# Altium integrated library Linear Technology PMIC-Switching Reg LTC1174-LTC3901.IntLib: 2647 symbols (part 89 of 310)
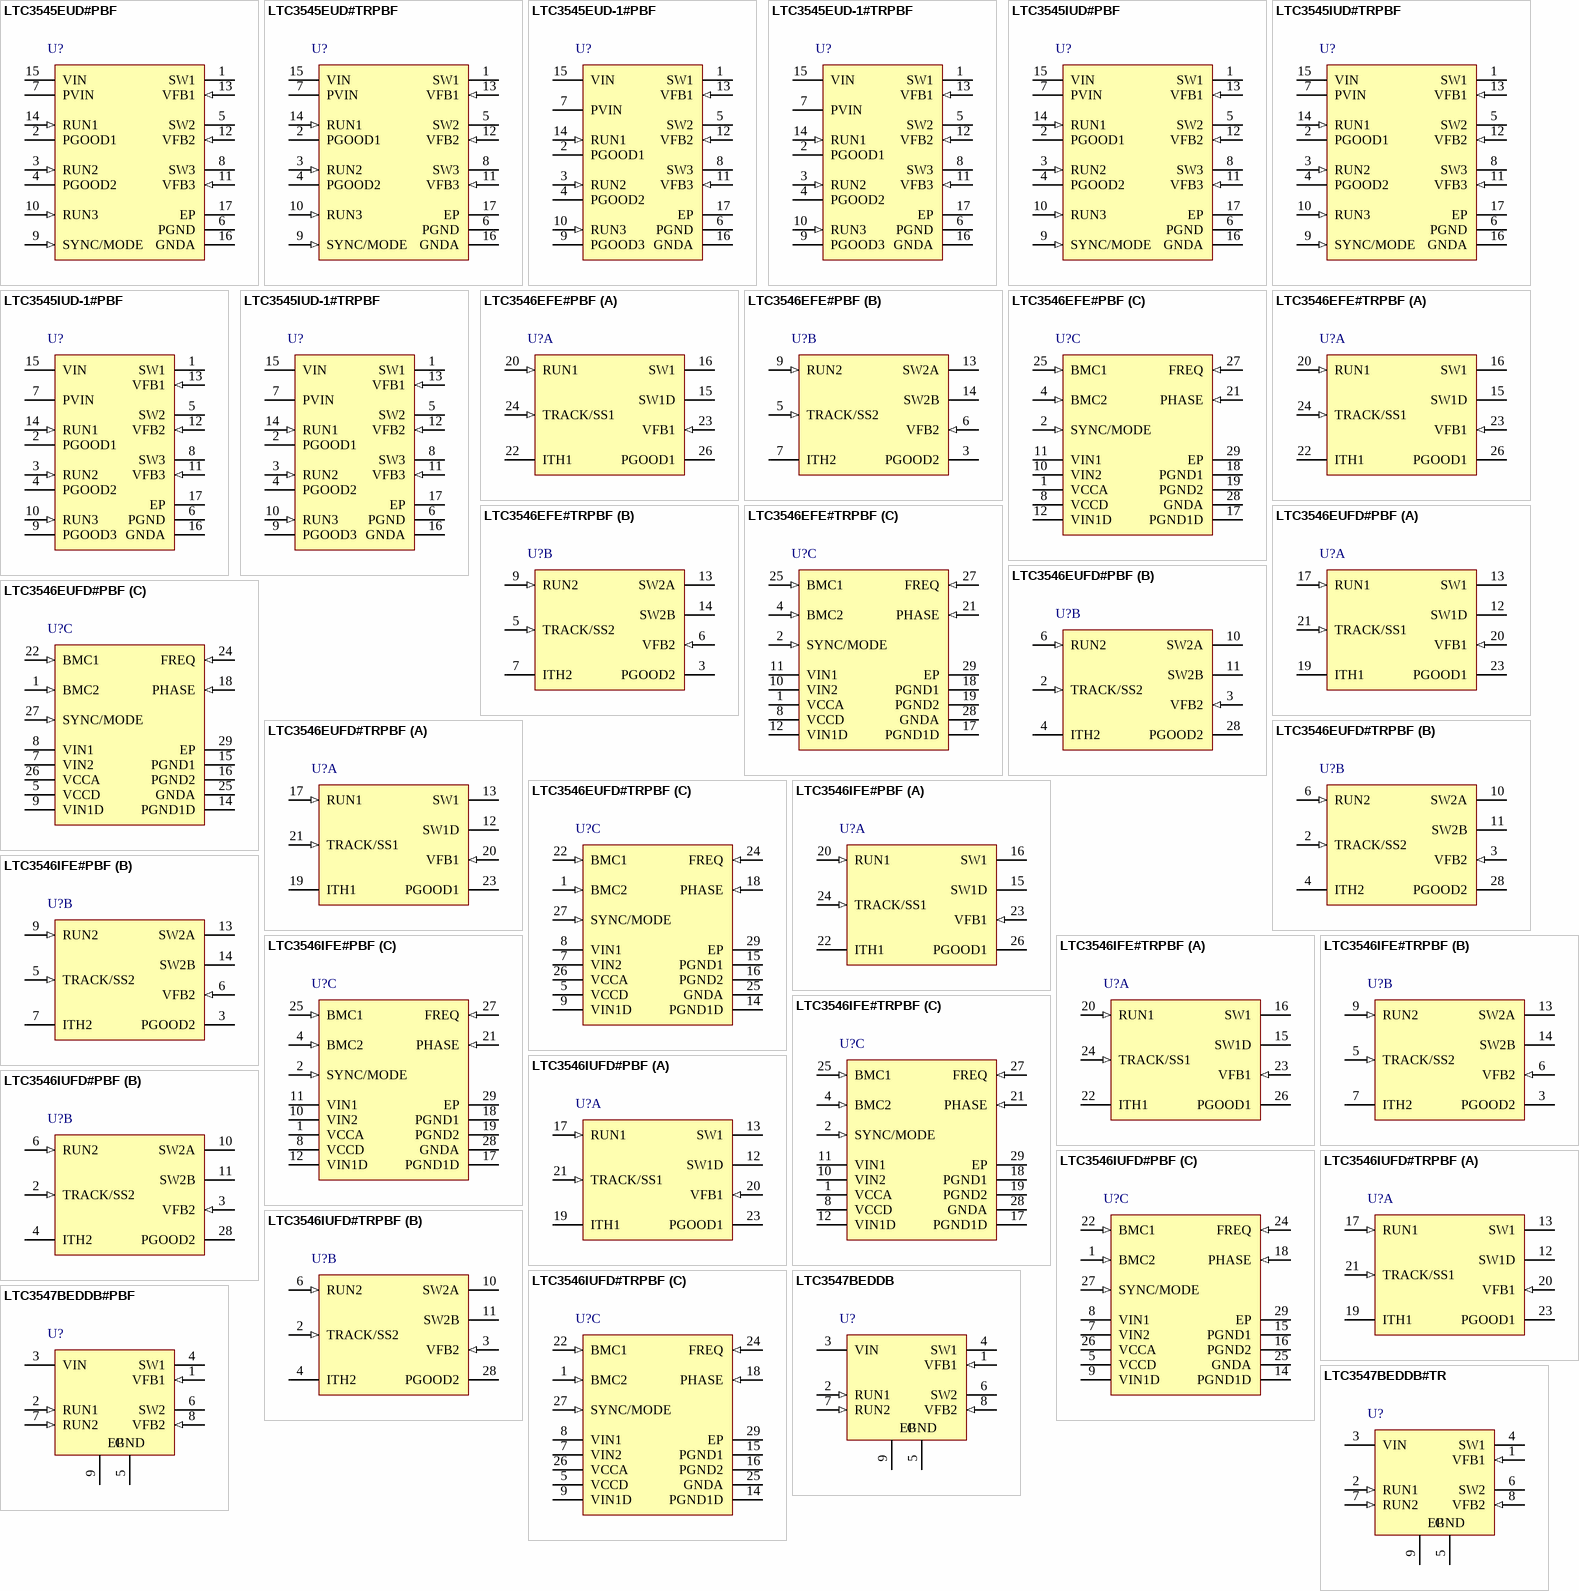
[diagram p265: symbols LTC3545EUD#PBF to LTC3547BEDDB#TR]

## LTC3545EUD-1#PBF
designator U?
Triple 800 mA Synchronous Step-Down Regulator - 2.25 MHz, 16-pin QFN (UD-16-EPV-AA), -40 to 125 degC, Pb-Free; Manufacturer: Linear Technology; PartNumber: LTC3545EUD-1#PBF; Number of Outputs: 3; PackageReference: UD-16; PackageDescription: 16-Pin Plastic QFN, Body 3 x 3 mm, Pitch 0.5 mm; Supplier 1: Digi-Key; Supplier Part Number 1: LTC3545EUD-1#PBF-ND; RoHS: TRUE; Code_JEDEC: MO-220
footprint LT-UD-16-EPV-AA_N (QFN, 16-Leads, Body 3.1x3.1mm, Pitch 0.5mm, Thermal Pad 1.65x1.65mm, IPC Medium Density)
footprint LT-UD-16-EPV-AA_L (QFN, 16-Leads, Body 3.1x3.1mm, Pitch 0.5mm, Thermal Pad 1.65x1.65mm, IPC High Density)
footprint LT-UD-16-EPV-AA_M (QFN, 16-Leads, Body 3.1x3.1mm, Pitch 0.5mm, Thermal Pad 1.65x1.65mm, IPC Low Density)
pins: 1 SW1 (power) "Switch Node Connection to Inductor for Regulator 1. This pin connects to the internal power MOSFET switches.", 2 PGOOD1 (oc) "This open-drain output voltage is pulled to a logic low when VFB1 is below 0.54V (VOUT1 is below 90% of regulated level).", 3 RUN2 (in) "Regulator 2 Enable Pin. Apply a voltage greater than VRUN(HIGH) to enable this regulator", 4 PGOOD2 (oc) "This open-drain output voltage is pulled to a logic low when VFB2 is below 0.54V (VOUT2 is below 90% of regulated level).", 5 SW2 (power) "Switch Node Connection to Inductor for Regulator 2. This pin connects to the internal power MOSFET switches.", 6 PGND (power) "Regulators 2 and 3 Power Path Return.", 7 PVIN (power) "Power Path Supply Pin for Regulators 2 and 3. This pin must be closely decoupled to PGND, with a 4.7uF or greater ceramic capacitor.", 8 SW3 (power) "Switch Node Connection to Inductor for Regulator 3. This pin connects to the internal power MOSFET switches.", 9 PGOOD3 (oc) "This open-drain output voltage is pulled to a logic low when VFB3 is below 0.54V (VOUT3 is below 90% of regulated level). The LTC3545-1 operates in Burst Mode operation only.", 10 RUN3 (in) "Regulator 3 Enable Pin. Apply a voltage greater than VRUN(HIGH) to enable this regulator", 11 VFB3 (in) "Regulator 3 Feedback Pin. This pin receives the feedback voltage from an external resistive divider across the output.", 12 VFB2 (in) "Regulator 2 Feedback Pin. This pin receives the feedback voltage from an external resistive divider across the output.", 13 VFB1 (in) "Regulator 1 Feedback Pin. This pin receives the feedback voltage from an external resistive divider across the output.", 14 RUN1 (in) "Regulator 1 Enable Pin. Apply a voltage greater than VRUN(HIGH) to enable this regulator", 15 VIN (power) "Supply Pin for Internal Reference and Control Circuitry. Power path supply for regulator 1.", 16 GNDA (power) "Ground Pin for Internal Reference and Control Circuitry. Power path return for regulator 1.", 17 EP (power) "GND. Must be soldered to the PCB."

## LTC3545EUD-1#TRPBF
designator U?
Triple 800 mA Synchronous Step-Down Regulator - 2.25 MHz, 16-pin QFN (UD-16-EPV-AA), -40 to 125 degC, Pb-Free, Tape and Reel; Manufacturer: Linear Technology; PartNumber: LTC3545EUD-1#TRPBF; Number of Outputs: 3; PackageReference: UD-16; PackageDescription: 16-Pin Plastic QFN, Body 3 x 3 mm, Pitch 0.5 mm; Supplier 1: Digi-Key; Supplier Part Number 1: LTC3545EUD-1#TRPBF-ND; RoHS: TRUE; Code_JEDEC: MO-220
footprint LT-UD-16-EPV-AA_N (QFN, 16-Leads, Body 3.1x3.1mm, Pitch 0.5mm, Thermal Pad 1.65x1.65mm, IPC Medium Density)
footprint LT-UD-16-EPV-AA_L (QFN, 16-Leads, Body 3.1x3.1mm, Pitch 0.5mm, Thermal Pad 1.65x1.65mm, IPC High Density)
footprint LT-UD-16-EPV-AA_M (QFN, 16-Leads, Body 3.1x3.1mm, Pitch 0.5mm, Thermal Pad 1.65x1.65mm, IPC Low Density)
pins: 1 SW1 (power) "Switch Node Connection to Inductor for Regulator 1. This pin connects to the internal power MOSFET switches.", 2 PGOOD1 (oc) "This open-drain output voltage is pulled to a logic low when VFB1 is below 0.54V (VOUT1 is below 90% of regulated level).", 3 RUN2 (in) "Regulator 2 Enable Pin. Apply a voltage greater than VRUN(HIGH) to enable this regulator", 4 PGOOD2 (oc) "This open-drain output voltage is pulled to a logic low when VFB2 is below 0.54V (VOUT2 is below 90% of regulated level).", 5 SW2 (power) "Switch Node Connection to Inductor for Regulator 2. This pin connects to the internal power MOSFET switches.", 6 PGND (power) "Regulators 2 and 3 Power Path Return.", 7 PVIN (power) "Power Path Supply Pin for Regulators 2 and 3. This pin must be closely decoupled to PGND, with a 4.7uF or greater ceramic capacitor.", 8 SW3 (power) "Switch Node Connection to Inductor for Regulator 3. This pin connects to the internal power MOSFET switches.", 9 PGOOD3 (oc) "This open-drain output voltage is pulled to a logic low when VFB3 is below 0.54V (VOUT3 is below 90% of regulated level). The LTC3545-1 operates in Burst Mode operation only.", 10 RUN3 (in) "Regulator 3 Enable Pin. Apply a voltage greater than VRUN(HIGH) to enable this regulator", 11 VFB3 (in) "Regulator 3 Feedback Pin. This pin receives the feedback voltage from an external resistive divider across the output.", 12 VFB2 (in) "Regulator 2 Feedback Pin. This pin receives the feedback voltage from an external resistive divider across the output.", 13 VFB1 (in) "Regulator 1 Feedback Pin. This pin receives the feedback voltage from an external resistive divider across the output.", 14 RUN1 (in) "Regulator 1 Enable Pin. Apply a voltage greater than VRUN(HIGH) to enable this regulator", 15 VIN (power) "Supply Pin for Internal Reference and Control Circuitry. Power path supply for regulator 1.", 16 GNDA (power) "Ground Pin for Internal Reference and Control Circuitry. Power path return for regulator 1.", 17 EP (power) "GND. Must be soldered to the PCB."